# Altium schematic symbol library MR60.SchLib: 1 symbol
Pins are listed as number, name and electrical type; pins without a type are passive.

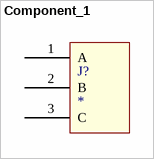
[diagram p0: symbol Component_1]

## Component_1
designator J?
footprint MR60 (Footprint not found)
pins: 1 A, 2 B, 3 C